# Altium footprint library PCB1.PcbLib: 19 footprints (part 2 of 2)
Each footprint in its own frame and in the unit in brackets; x right, y up, seen from the top. Pads: shape width x height; smd on the part's side, far side on the other; paste and mask are expansions set on the pad; w line width, h text height; cw(c..) or ccw(c..) is an arc to the next point about the centre after c.
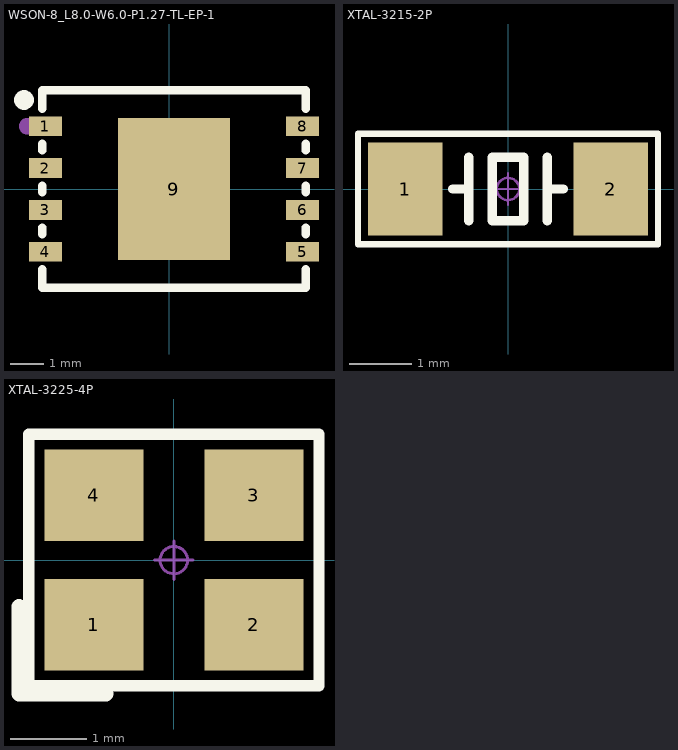
[diagram p1: the footprints below, top view; thin cyan lines are the x and y axes]

## WSON-8_L8.0-W6.0-P1.27-TL-EP-1 [mm]
pads (9):
  rect 1x0.6 smd paste+0 mask+0.05: 1(-3.75,1.905) 2(-3.75,0.635) 3(-3.75,-0.635) 4(-3.75,-1.905) 5(4.05,-1.905) 6(4.05,-0.635) 7(4.05,0.635) 8(4.05,1.905)
  rect 3.4x4.3 smd paste+0 mask+0.05: 9(0.15,0)
Top Overlay:
  circle w0.3: c-4.4,2.7 r0.15
  lines w0.254: -3.85,-2.436 -3.85,-3 4.15,-3 4.15,-2.436 ; -3.85,-1.374 -3.85,-1.166 ; -3.85,-0.104 -3.85,0.104 ; -3.85,1.166 -3.85,1.374 ; -3.85,2.436 -3.85,3 4.1,3 ; 4.15,-1.374 4.15,-1.166 ; 4.15,-0.104 4.15,0.104 ; 4.15,1.166 4.15,1.374 ; 4.15,2.436 4.15,3
Mechanical 15:
  circle w0.254: c-4.295,1.905 r0.127

## XTAL-3215-2P [mm]
pads (2):
  rect 1.2x1.5 smd: 1(-1.65,0) 2(1.65,0)
Top Overlay:
  lines w0.1: -2.413,-0.889 2.413,-0.889 2.413,0.889 -2.413,0.889 -2.413,-0.889
  lines w0.152: -0.889,0 -0.635,0 ; -0.635,-0.508 -0.635,0.508 ; 0.635,-0.508 0.635,0.508 ; 0.635,0 0.889,0 ; -0.254,-0.508 -0.254,0.508 0.254,0.508 0.254,-0.508 -0.254,-0.508
Mechanical 15:
  circle w0.04: c0,0 r0.18
  lines w0.04: -0.254,0 0.254,0 ; 0,-0.254 0,0.254
3D body "OSC_3215-2.STEP": height 0.61, standoff -0.01, extent -1.6,-0.75 1.6,0.75

## XTAL-3225-4P [mm]
pads (4):
  rect 1.3x1.2 smd: 1(-1.05,-0.85) 2(1.05,-0.85) 3(1.05,0.85) 4(-1.05,0.85)
Top Overlay:
  lines w0.15: -1.905,-1.651 1.905,-1.651 1.905,1.651 -1.905,1.651 -1.905,-1.651
  lines w0.2: -2.032,-1.753 -0.889,-1.753 ; -2.032,-1.727 -2.032,-0.61
Mechanical 15:
  circle w0.04: c0,0 r0.18
  lines w0.04: -0.254,0 0.254,0 ; 0,-0.254 0,0.254
3D body "OSC_3225-4.STEP": height 0.7, standoff -0.02, extent -1.6,-1.25 1.6,1.25